# EAGLE library part SN74LVC2G00DCUT_SN74LVC2G00DCUT (library demon)
Check availability <https://pricing.snapeda.com/parts/SN74LVC2G00DCUT/Texas%20Instruments/view-part?ref=eda>
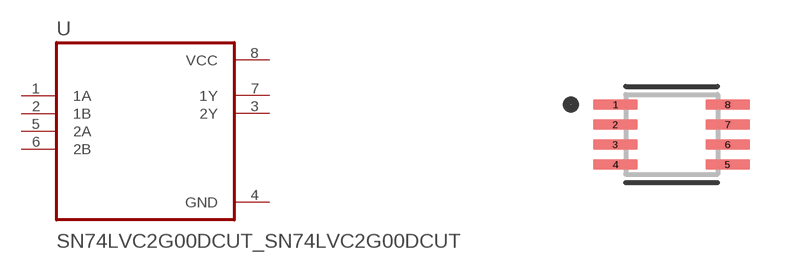
[diagram p2: symbol with the pads of SN74LVC2G00DCUT_SOP50P310X90-8N; footprint SN74LVC2G00DCUT_SOP50P310X90-8N]

Designator prefix U

## SN74LVC2G00DCUT_SN74LVC2G00DCUT (AVAILABILITY: In Stock; DESCRIPTION: 2-ch, 2-input, 1.65-V to 5.5-V NAND gates; MF: Texas Instruments; MP: SN74LVC2G00DCUT; PACKAGE: VSSOP-8 Texas Instruments; PRICE: None; PURCHASE-URL: https://pricing.snapeda.com/search/part/SN74LVC2G00DCUT/?ref=eda)  [SN74LVC2G00DCUT_SOP50P310X90-8N]
1  1A  in
2  1B  in
3  2Y  out
4  GND  pwr
5  2A  in
6  2B  in
7  1Y  out
8  VCC  pwr

## Footprint SN74LVC2G00DCUT_SOP50P310X90-8N (pad centres in mm)
smd 1.12 x 0.27: 1 -1.405,0.75; 2 -1.405,0.25; 3 -1.405,-0.25; 4 -1.405,-0.75; 5 1.405,-0.75; 6 1.405,-0.25; 7 1.405,0.25; 8 1.405,0.75